# Altium integrated library S1WB60B.IntLib: 1 symbol
Pins are listed as number, name and electrical type; pins without a type are passive.

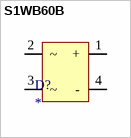
[diagram p0: symbol S1WB60B]

## S1WB60B
designator D?
footprint S1WB60B (rectificador de tension)
pins: 1 +, 2 ~, 3 ~, 4 -